# EAGLE library part STK500EXPAND1 (library ads4)
Atmel STK500 Expansion Connector 1 (bottom half)
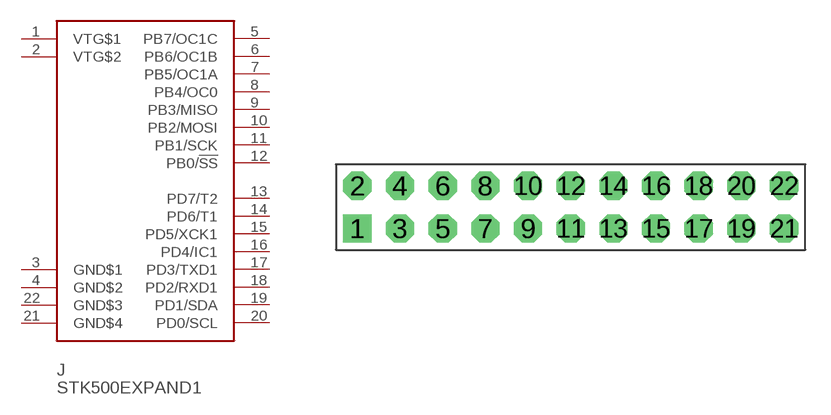
[diagram p20: symbol with the pads of CON22P2R; footprint CON22P2R]

Designator prefix J

## STK500EXPAND1  [CON22P2R]
1  VTG$1  pwr
2  VTG$2  pwr
3  GND$1  pwr
4  GND$2  pwr
5  PB7/OC1C
6  PB6/OC1B
7  PB5/OC1A
8  PB4/OC0
9  PB3/MISO
10  PB2/MOSI
11  PB1/SCK
12  PB0/!SS
13  PD7/T2
14  PD6/T1
15  PD5/XCK1
16  PD4/IC1
17  PD3/TXD1
18  PD2/RXD1
19  PD1/SDA
20  PD0/SCL
21  GND$4  pwr
22  GND$3  pwr

## Footprint CON22P2R (pad centres in mm)
22-Pin Dual Row 0.1" Connector
drill 1.016 pad 1.676 square: 1 -11.43,-1.27
drill 1.016 pad 1.676 octagon: 2 -11.43,1.27; 3 -8.89,-1.27; 4 -8.89,1.27; 5 -6.35,-1.27; 6 -6.35,1.27; 7 -3.81,-1.27; 8 -3.81,1.27; 9 -1.27,-1.27; 10 -1.27,1.27; 11 1.27,-1.27; 12 1.27,1.27; 13 3.81,-1.27; 14 3.81,1.27; 15 6.35,-1.27; 16 6.35,1.27; 17 8.89,-1.27; 18 8.89,1.27; 19 11.43,-1.27; 20 11.43,1.27; 21 13.97,-1.27; 22 13.97,1.27